# Altium footprint library LED_0603.PcbLib: 1 footprints
Each footprint in its own frame and in the unit in brackets; x right, y up, seen from the top. Pads: shape width x height; smd on the part's side, far side on the other; paste and mask are expansions set on the pad; w line width, h text height; cw(c..) or ccw(c..) is an arc to the next point about the centre after c.
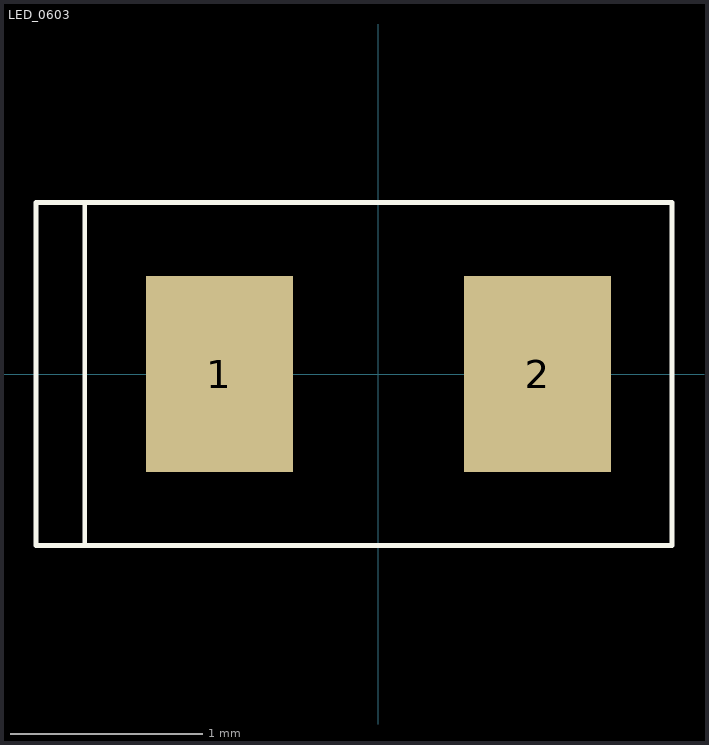
[diagram p0: the footprint, top view; thin cyan lines are the x and y axes]

## LED_0603 [mil]
pads (2):
  rect 30x40 smd mask+2: 1(-32.5,0) 2(32.5,0)
Top Overlay:
  lines w1: -60,-35 -60,35 ; -60,-35 -70,-35 -70,35 -60,35 ; -60,-35 -60,35 ; -60,-35 60,-35 60,35 -60,35
3D body "LED 0603 APT1608 GREEN.STEP": height 29.53, standoff 0, extent -31.49,-15.74 31.5,15.75